# EAGLE library part 20POS (library MICROCONTROLLER)
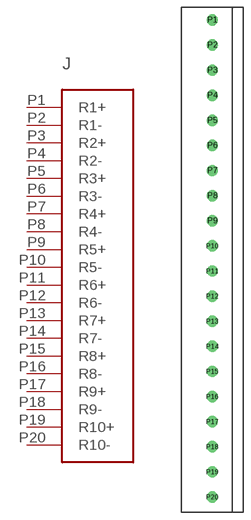
[diagram p6: symbol with the pads of 20_POS; footprint 20_POS]

Designator prefix J

## 20POS  [20_POS]
P1  R1+
P2  R1-
P3  R2+
P4  R2-
P5  R3+
P6  R3-
P7  R4+
P8  R4-
P9  R5+
P10  R5-
P11  R6+
P12  R6-
P13  R7+
P14  R7-
P15  R8+
P16  R8-
P17  R9+
P18  R9-
P19  R10+
P20  R10-

## Footprint 20_POS (pad centres in mm)
drill 1.143 pad 2.286: P1 0,0; P2 0,-5.08; P3 0,-10.16; P4 0,-15.24; P5 0,-20.32; P6 0,-25.4; P7 0,-30.48; P8 0,-35.56; P9 0,-40.64; P10 0,-45.72; P11 0,-50.8; P12 0,-55.88; P13 0,-60.96; P14 0,-66.04; P15 0,-71.12; P16 0,-76.2; P17 0,-81.28; P18 0,-86.36; P19 0,-91.44; P20 0,-96.52